# Altium footprint library ONSemiconductor_Library.PcbLib: 8 footprints
Each footprint in its own frame and in the unit in brackets; x right, y up, seen from the top. Pads: shape width x height; smd on the part's side, far side on the other; paste and mask are expansions set on the pad; w line width, h text height; cw(c..) or ccw(c..) is an arc to the next point about the centre after c.
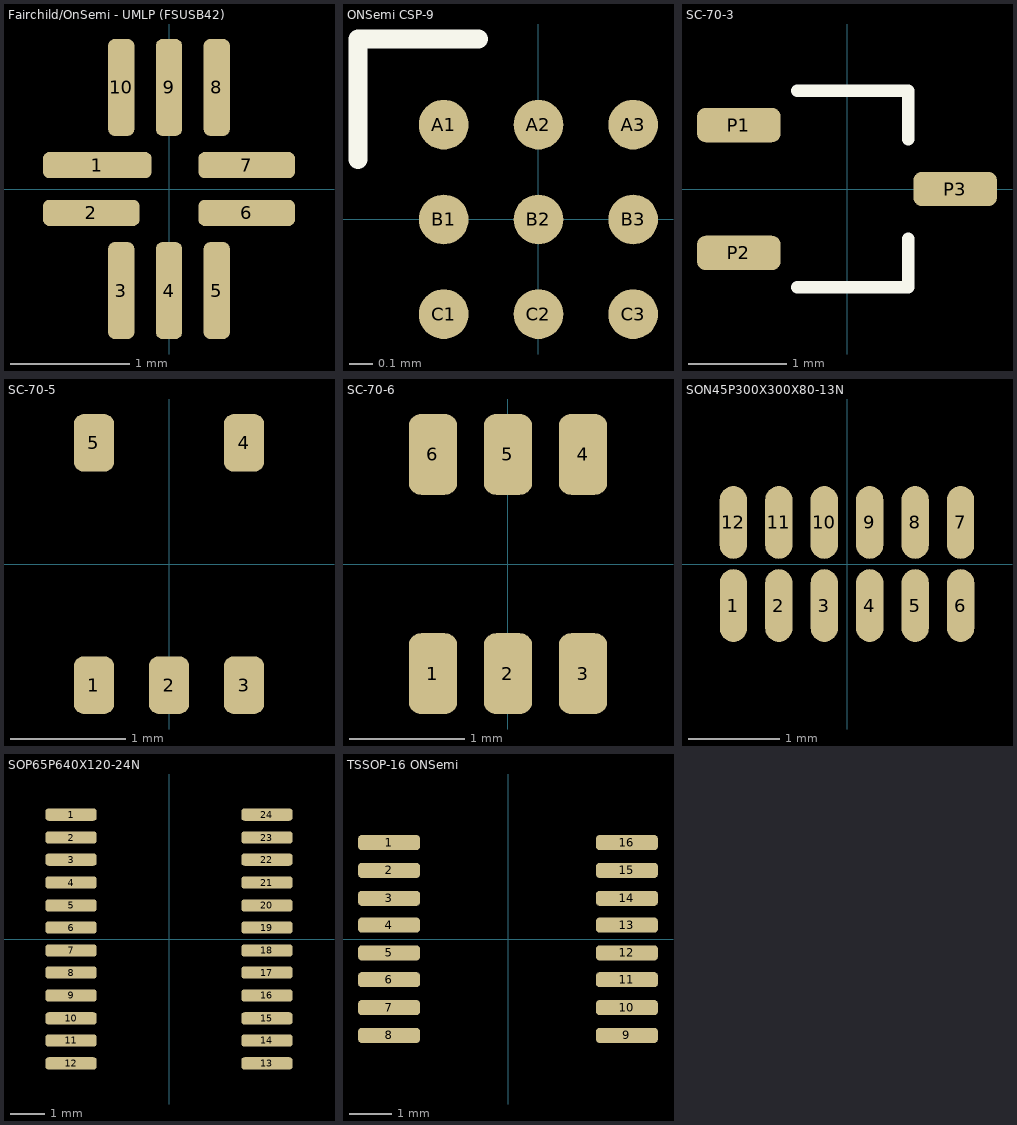
[diagram p0: the footprints below, top view; thin cyan lines are the x and y axes]

## Fairchild/OnSemi - UMLP (FSUSB42) [mm]
height 0.5
pads (10):
  rrect50% 0.91x0.22 smd: 1(-0.6,0.2)
  rrect50% 0.81x0.22 smd: 2(-0.65,-0.2) 6(0.65,-0.2) 7(0.65,0.2)
  rrect50% 0.22x0.81 smd: 3(-0.4,-0.85) 4(0,-0.85) 5(0.4,-0.85) 8(0.4,0.85) 9(0,0.85) 10(-0.4,0.85)
Top Solder:
  rectangle: -0.508,-0.762 0.508,0.762
3D body "FSUSB42_UMLP10.x_t": height 0.48, standoff -0.02, extent -0.71,-0.91 0.71,0.91

## ONSemi CSP-9 [mm]
height 0.63
pads (9):
  round 0.21 smd: A1(-0.4,0.4) A2(0,0.4) A3(0.4,0.4) B1(-0.4,0) B2(0,0) B3(0.4,0) C1(-0.4,-0.4) C2(0,-0.4) C3(0.4,-0.4)
Top Overlay:
  lines w0.08: -0.762,0.254 -0.762,0.762 -0.254,0.762
3D body "WLCSP9_Case567CX-01.x_t": height 0.57, standoff 0, extent -0.57,-0.57 0.57,0.57

## SC-70-3 [mm]
pads (3):
  rrect50% 0.85x0.35 smd: P1(-1.1,0.65) P2(-1.1,-0.65) P3(1.1,0)
Top Overlay:
  lines w0.127: -0.508,-1 0.625,-1 0.625,-0.508 ; -0.508,1 0.625,1 0.625,0.508

## SC-70-5 [mm]
pads (5):
  rrect50% 0.35x0.5 smd: 1(-0.65,-1.05) 2(0,-1.05) 3(0.65,-1.05) 4(0.65,1.05) 5(-0.65,1.05)
3D body "sot353.step": height 1, standoff 0, extent -1.05,-1.15 1.05,1.15

## SC-70-6 [mm]
pads (6):
  rrect50% 0.42x0.7 smd mask+0.05: 1(-0.65,-0.95) 2(0,-0.95) 3(0.65,-0.95) 4(0.65,0.95) 5(0,0.95) 6(-0.65,0.95)
3D body "SC70-6.step": height 0.96, standoff 0.01, extent -1,-1.05 1,1.05

## SON45P300X300X80-13N [mm]
pads (12):
  oval 0.3x0.8 smd: 1(-1.25,-0.457) 2(-0.75,-0.457) 3(-0.25,-0.457) 4(0.25,-0.457) 5(0.75,-0.457) 6(1.25,-0.457) 7(1.25,0.457) 8(0.75,0.457) 9(0.25,0.457) 10(-0.25,0.457) 11(-0.75,0.457) 12(-1.25,0.457)
Top Solder:
  rectangle: -1.524,-0.889 1.524,0.889
3D body "NLAS3158_3D.STEP": height 0.85, standoff 0, extent -1.5,-0.51 1.5,0.51

## SOP65P640X120-24N [mil]
pads (24):
  rrect50% 58x14 smd: 1(-111,141) 2(-111,115) 3(-111,90) 4(-111,64) 5(-111,38) 6(-111,13) 7(-111,-13) 8(-111,-38) 9(-111,-64) 10(-111,-90) 11(-111,-115) 12(-111,-141) 13(111,-141) 14(111,-115) 15(111,-90) 16(111,-64) 17(111,-38) 18(111,-13) 19(111,13) 20(111,38) 21(111,64) 22(111,90) 23(111,115) 24(111,141)
3D body "MC74LVXC3245_TSSOP24_(JEDEC_MO-153).x_t": height 47.24, standoff 0, extent -129.05,-155.51 129.05,155.51

## TSSOP-16 ONSemi [mil]
height 43.31
pads (16):
  rrect50% 58x14 smd: 1(-111,90) 2(-111,64) 3(-111,38) 4(-111,13) 5(-111,-13) 6(-111,-38) 7(-111,-64) 8(-111,-90) 9(111,-90) 10(111,-64) 11(111,-38) 12(111,-13) 13(111,13) 14(111,38) 15(111,64) 16(111,90)
3D body "TSSOP-16-2.STEP": height 47.24, standoff 0, extent -125.98,-98.42 125.98,98.43